# Altium schematic symbol library ULN2003.SchLib: 1 symbol
Pins are listed as number, name and electrical type; pins without a type are passive.

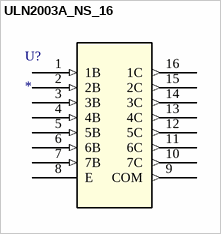
[diagram p0: symbol ULN2003A_NS_16]

## ULN2003A_NS_16
designator U?
High-Voltage, High-Current Darlington Transistor Arrays; Manufacturer: Texas Instruments; GENERIC_PART_NUMBER: ULN2003A; INDUSTRY_STD_PKG_TYPE: SO; FAMILY_NAME: PERIPHERAL DRIVER AND ACTUATOR; PIN_COUNT: 16; PACKAGE_DESIGNATOR: NS; Datasheet_URL: http://www.ti.com/lit/gpn/ULN2003A; Value: Value; Type: Type; RefDes: RefDes
footprint NS16
pins: 1 1B (in), 2 2B (in), 3 3B (in), 4 4B (in), 5 5B (in), 6 6B (in), 7 7B (in), 8 E, 9 COM (out), 10 7C (out), 11 6C (out), 12 5C (out), 13 4C (out), 14 3C (out), 15 2C (out), 16 1C (out)